# Altium integrated library Xilinx XC4000EX.IntLib: 50 symbols (part 9 of 9)
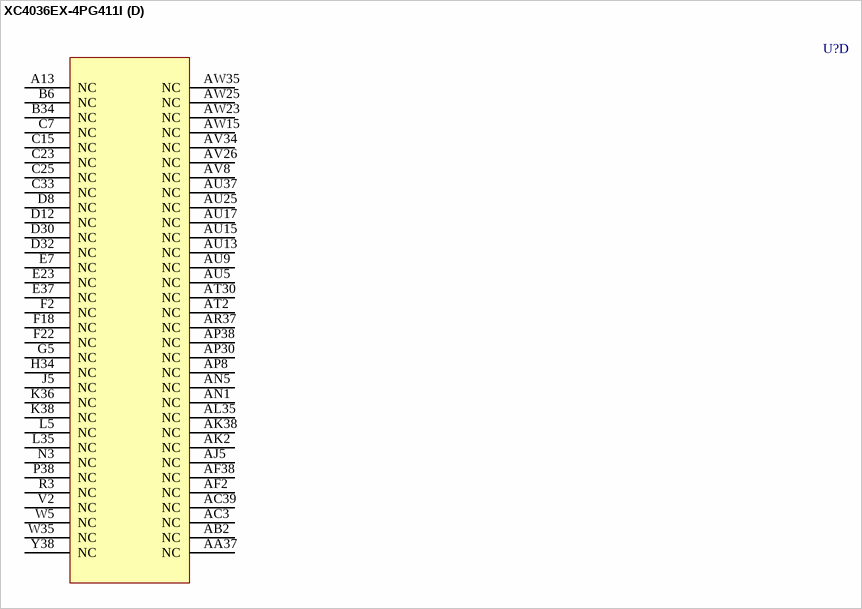
[diagram p103: symbol XC4036EX-4PG411I]

## XC4036EX-4PG411I
designator U?
XC4000EX FPGA, 288 I/Os, 411-Pin PGA, Speed Grade 4, Industrial Grade; Published: 28-Feb-2003; LatestRevisionDate: 04-Mar-2005; LatestRevisionNote: Stylized 3D Model Added.; DatasheetVersion: ver1.6, May-1999; PackageVersion: ver1.1, Apr-2001; PackageReference: PG411; Publisher: Altium Limited; PackageDescription: 411-Pin Ceramic Pin Grid Array (PG411); Supplier 1: Digi-Key; Supplier Part Number 1: XC4036EX-4PG411I-ND; Code_JEDEC: MO-128-AM; ComponentLink1Description: XC4000EX Datasheet; ComponentLink1URL: http://www.xilinx.com/support/documentation/data_sheets/4000.pdf; ComponentLink2Description: Discontinuation Notice; ComponentLink2URL: http://www.xilinx.com/support/documentation/customer_notices/pdn2002-01.pdf; ComponentLink3Description: PG411 Package Drawing; ComponentLink3URL: http://www.xilinx.com/support/documentation/package_specs/pg411.pdf; ComponentLink4Description: XC4000 Documents; ComponentLink4URL: http://www.xilinx.com/support/documentation/xc4000.htm; ComponentLink5Description: Xilinx.com Home; ComponentLink5URL: http://www.xilinx.com
footprint PG411 (PGA, 411-Leads, Body 52.3x52.3mm, Pitch 2.54mm)
part A pins: A5 I/O (245) (io), A7 I/O (242) (io), A15 I/O (299) (io), A17 I/O (311) (io), A23 I/O (344) (io), A25 I/O (350) (io), A27 I/O (359) (io), A33 I/O (407) (io), A35 I/O (410) (io), AA3 I/O (A6) (104) (io), AA5 I/O (A20) (101) (io), AB4 I/O (A5) (89) (io), AB6 I/O (83) (io), AC1 I/O (95) (io), AC5 I/O (74) (io), AD2 I/O (A4) (86) (io), AD4 I/O (A21) (98) (io), AD6 I/O (65) (io), AE1 I/O (77) (io), AE3 I/O (92) (io), AE5 I/O (59) (io), AF6 I/O (47) (io), AG1 I/O (71) (io), AG3 I/O (68) (io), AG5 I/O (44) (io), AH2 I/O (56) (io), AH4 I/O (80) (io), AH6 I/O (35) (io), AJ3 I/O (53) (io), AK4 I/O (41) (io), AK6 I/O (CS1, A2) (20) (io), AL3 I/O (32) (io), AL5 I/O (50) (io), AL7 I/O (11) (io), AM2 I/O (29) (io), AM4 I/O (62) (io), AM6 I/O (26) (io), AM8 I/O (8) (io), AN3 I/O (A3) (23) (io), AP2 I/O (38) (io), AR1 I/O (17) (io), AR3 I/O (14) (io), AT4 I/O (A0, ~{WS}) (2) (io), B4 I/O (224) (io), B8 I/O (248) (io), B10 I/O (263) (io), B12 I/O (275) (io), B14 I/O (290) (io), B16 I/O (302) (io), B18 I/O (317) (io), B20 I/O (329) (io), B22 I/O (335) (io), B24 I/O (347) (io), B26 I/O (356) (io), B28 I/O (374) (io), B30 I/O (386) (io), B32 I/O (404) (io), B36 I/O, GCK2 (431) (io), B38 I/O (419) (io), C3 I/O (206) (io), C5 I/O (239) (io), C9 I/O (251) (io), C11 I/O (272) (io), C13 I/O (287) (io), C17 I/O (320) (io), C19 I/O (323) (io), C21 I/O (332) (io), C27 I/O (362) (io), C29 I/O (377) (io), C31 I/O (398) (io), C35 I/O (416) (io), D2 I/O (209) (io), D4 I/O (227) (io), D10 I/O (260) (io), D16 I/O (305) (io), D18 I/O (308) (io), D22 I/O (341) (io), D24 I/O (353) (io), D28 I/O (383) (io), D36 I/O, GCK3 (439) (io), E1 I/O (194) (io), E3 I/O (197) (io), E5 I/O (A14) (212) (io), E9 I/O (254) (io), E13 I/O (296) (io), E15 I/O (281) (io), E17 I/O (293) (io), E19 I/O (314) (io), E21 I/O (338) (io), E25 I/O (368) (io), E27 I/O (371) (io), E29 I/O (389) (io), E31 I/O (401) (io), E33 I/O (422) (io), F6 I/O (A17) (221) (io), F8 I/O (236) (io), F10 I/O (266) (io), F12 I/O (257) (io), F14 I/O (269) (io), F16 I/O (284) (io), F20 I/O (326) (io), F24 I/O (365) (io), F26 I/O (380) (io), F28 I/O (392) (io), F30 I/O (395) (io), F32 I/O (413) (io), G1 I/O (191) (io), G3 I/O (A13) (185) (io), G7 I/O, GCK8 (A15) (215) (io), G31 I/O (425) (io), H2 I/O (179) (io), H4 I/O (A12) (182) (io), H6 I/O (203) (io), H8 I/O, GCK1 (A16) (218) (io), H32 I/O (428) (io), J3 I/O (176) (io), J7 I/O (200) (io), K2 I/O (164) (io), K4 I/O (167) (io), K6 I/O (188) (io), L3 I/O (152) (io), M2 I/O (149) (io), M4 I/O (161) (io), M6 I/O (173) (io), N1 I/O (143) (io), N5 I/O (158) (io), P2 I/O (140) (io), P6 I/O (170) (io), R1 I/O (A11) (131) (io), R5 I/O (146) (io), T2 I/O (A18) (119) (io), T4 I/O (137) (io), T6 I/O (155) (io), U1 I/O (122) (io), U3 I/O (A10) (128) (io), U5 I/O (134) (io), V4 I/O (A19) (116) (io), V6 I/O (125) (io), W3 I/O (A8) (110) (io), Y2 I/O (A9) (113) (io), Y6 I/O (A7) (107) (io)
part B pins: AA35 I/O (559) (io), AB34 I/O (571) (io), AB36 I/O (565) (io), AB38 I/O (553) (io), AC35 I/O (580) (io), AC37 I/O (550) (io), AD34 I/O (589) (io), AD36 I/O (556) (io), AD38 I/O (568) (io), AE35 I/O (595) (io), AE37 I/O (562) (io), AE39 I/O (574) (io), AF34 I/O (607) (io), AG35 I/O (604) (io), AG37 I/O (586) (io), AG39 I/O (583) (io), AH34 I/O (619) (io), AH36 I/O (610) (io), AH38 I/O (598) (io), AJ35 I/O (622) (io), AJ37 I/O (601) (io), AK34 I/O (637) (io), AK36 I/O (613) (io), AL33 I/O (646) (io), AL37 I/O (625) (io), AM32 I/O (D7) (655) (io), AM34 I/O (616) (io), AM36 I/O (577) (io), AM38 I/O (631) (io), AN9 I/O (859) (io), AN31 I/O (664) (io), AN35 I/O (643) (io), AN37 I/O (634) (io), AN39 I/O (592) (io), AP6 I/O (D0, DIN) (865) (io), AP10 I/O (832) (io), AP12 I/O (835) (io), AP14 I/O (817) (io), AP16 I/O (802) (io), AP18 I/O (784) (io), AP20 I/O (D4) (757) (io), AP22 I/O (739) (io), AP24 I/O (D5) (721) (io), AP26 I/O (706) (io), AP28 I/O (694) (io), AP32 I/O (673) (io), AP34 I/O, GCK5 (658) (io), AR7 I/O (853) (io), AR9 I/O (838) (io), AR11 I/O (820) (io), AR13 I/O (808) (io), AR15 I/O (D2) (799) (io), AR17 I/O (787) (io), AR19 I/O (772) (io), AR21 I/O (751) (io), AR23 I/O (736) (io), AR25 I/O (718) (io), AR27 I/O (727) (io), AR29 I/O (703) (io), AR31 I/O (691) (io), AR33 I/O (670) (io), AR39 I/O (640) (io), AT8 I/O (826) (io), AT10 I/O (829) (io), AT12 I/O (814) (io), AT16 I/O (790) (io), AT18 I/O (775) (io), AT22 I/O (748) (io), AT24 I/O (733) (io), AT28 I/O (715) (io), AT32 I/O (697) (io), AT36 I/O, GCK4 (652) (io), AT38 I/O (628) (io), AU3 I/O, GCK6 (DOUT) (868) (io), AU7 I/O (D1) (841) (io), AU11 I/O (811) (io), AU19 I/O (D3) (763) (io), AU21 I/O (760) (io), AU23 I/O (745) (io), AU27 I/O (~{CS0}) (724) (io), AU29 I/O (709) (io), AU31 I/O (688) (io), AU33 I/O (682) (io), AU35 I/O (676) (io), AV2 I/O, GCK7 (A1) (5) (io), AV4 I/O (856) (io), AV6 I/O (850) (io), AV10 I/O (823) (io), AV12 I/O (805) (io), AV14 I/O (793) (io), AV16 I/O (781) (io), AV18 I/O (769) (io), AV20 I/O (~{RS}) (766) (io), AV22 I/O (754) (io), AV24 I/O (742) (io), AV28 I/O (712) (io), AV30 I/O (700) (io), AV32 I/O (D6) (685) (io), AV36 I/O (667) (io), AV38 I/O (649) (io), AW1 I/O (862) (io), AW5 I/O (847) (io), AW7 I/O (~{RCLK}, RDY/~{BUSY}) (844) (io), AW13 I/O (796) (io), AW17 I/O (778) (io), AW27 I/O (730) (io), AW33 I/O (679) (io), AW39 I/O (661) (io), C37 I/O (HDC) (442) (io), D38 I/O (451) (io), E39 I/O (457) (io), F34 I/O (445) (io), F38 I/O (463) (io), G35 I/O (~{LDC}) (454) (io), G37 I/O (466) (io), G39 I/O (475) (io), H36 I/O (499) (io), H38 I/O (469) (io), J33 I/O (448) (io), J35 I/O (487) (io), J37 I/O (472) (io), K34 I/O (460) (io), L37 I/O (490) (io), M34 I/O (478) (io), M36 I/O (517) (io), M38 I/O (493) (io), N35 I/O (481) (io), N37 I/O (505) (io), N39 I/O (508) (io), P34 I/O (484) (io), R35 I/O (496) (io), R37 I/O (523) (io), R39 I/O (514) (io), T34 I/O (502) (io), T36 I/O (529) (io), T38 I/O (526) (io), U35 I/O (511) (io), U37 I/O (535) (io), U39 I/O (538) (io), V34 I/O (520) (io), V36 I/O (532) (io), V38 I/O (541) (io), W37 I/O (~{INIT}) (544) (io), Y34 I/O (547) (io)
part C pins: A3 VCC (power), A9 GND (power), A11 VCC (power), A19 GND (power), A21 VCC (power), A29 GND (power), A31 VCC (power), A37 GND (power), A39 O (M1) (434) (io), AA1 GND (power), AA39 VCC (power), AF4 GND (power), AF36 GND (power), AJ1 VCC (power), AJ39 GND (power), AL1 GND (power), AL39 VCC (power), AN7 O, TDO (0) (hiz), AN33 ~{PROGRAM} (in), AP4 VCC (power), AP36 GND (power), AR5 CCLK (io), AR35 DONE (io), AT6 GND (power), AT14 GND (power), AT20 GND (power), AT26 GND (power), AT34 VCC (power), AU1 VCC (power), AU39 GND (power), AW3 GND (power), AW9 VCC (power), AW11 GND (power), AW19 VCC (power), AW21 GND (power), AW29 VCC (power), AW31 GND (power), AW37 VCC (power), B2 I/O, TDI (230) (io), C1 GND (power), C39 VCC (power), D6 VCC (power), D14 GND (power), D20 GND (power), D26 GND (power), D34 GND (power), E11 I/O, TMS (278) (io), E35 I (M0) (437) (in), F4 GND (power), F36 VCC (power), G9 I/O, TCK (233) (io), G33 I (M2) (438) (in), J1 VCC (power), J39 GND (power), L1 GND (power), L39 VCC (power), P4 GND (power), P36 GND (power), W1 VCC (power), W39 GND (power), Y4 GND (power), Y36 GND (power)
part D pins: A13 NC, AA37 NC, AB2 NC, AC3 NC, AC39 NC, AF2 NC, AF38 NC, AJ5 NC, AK2 NC, AK38 NC, AL35 NC, AN1 NC, AN5 NC, AP8 NC, AP30 NC, AP38 NC, AR37 NC, AT2 NC, AT30 NC, AU5 NC, AU9 NC, AU13 NC, AU15 NC, AU17 NC, AU25 NC, AU37 NC, AV8 NC, AV26 NC, AV34 NC, AW15 NC, AW23 NC, AW25 NC, AW35 NC, B6 NC, B34 NC, C7 NC, C15 NC, C23 NC, C25 NC, C33 NC, D8 NC, D12 NC, D30 NC, D32 NC, E7 NC, E23 NC, E37 NC, F2 NC, F18 NC, F22 NC, G5 NC, H34 NC, J5 NC, K36 NC, K38 NC, L5 NC, L35 NC, N3 NC, P38 NC, R3 NC, V2 NC, W5 NC, W35 NC, Y38 NC